# Altium integrated library NXP_60_26022015.IntLib: 1306 symbols (part 3 of 28)
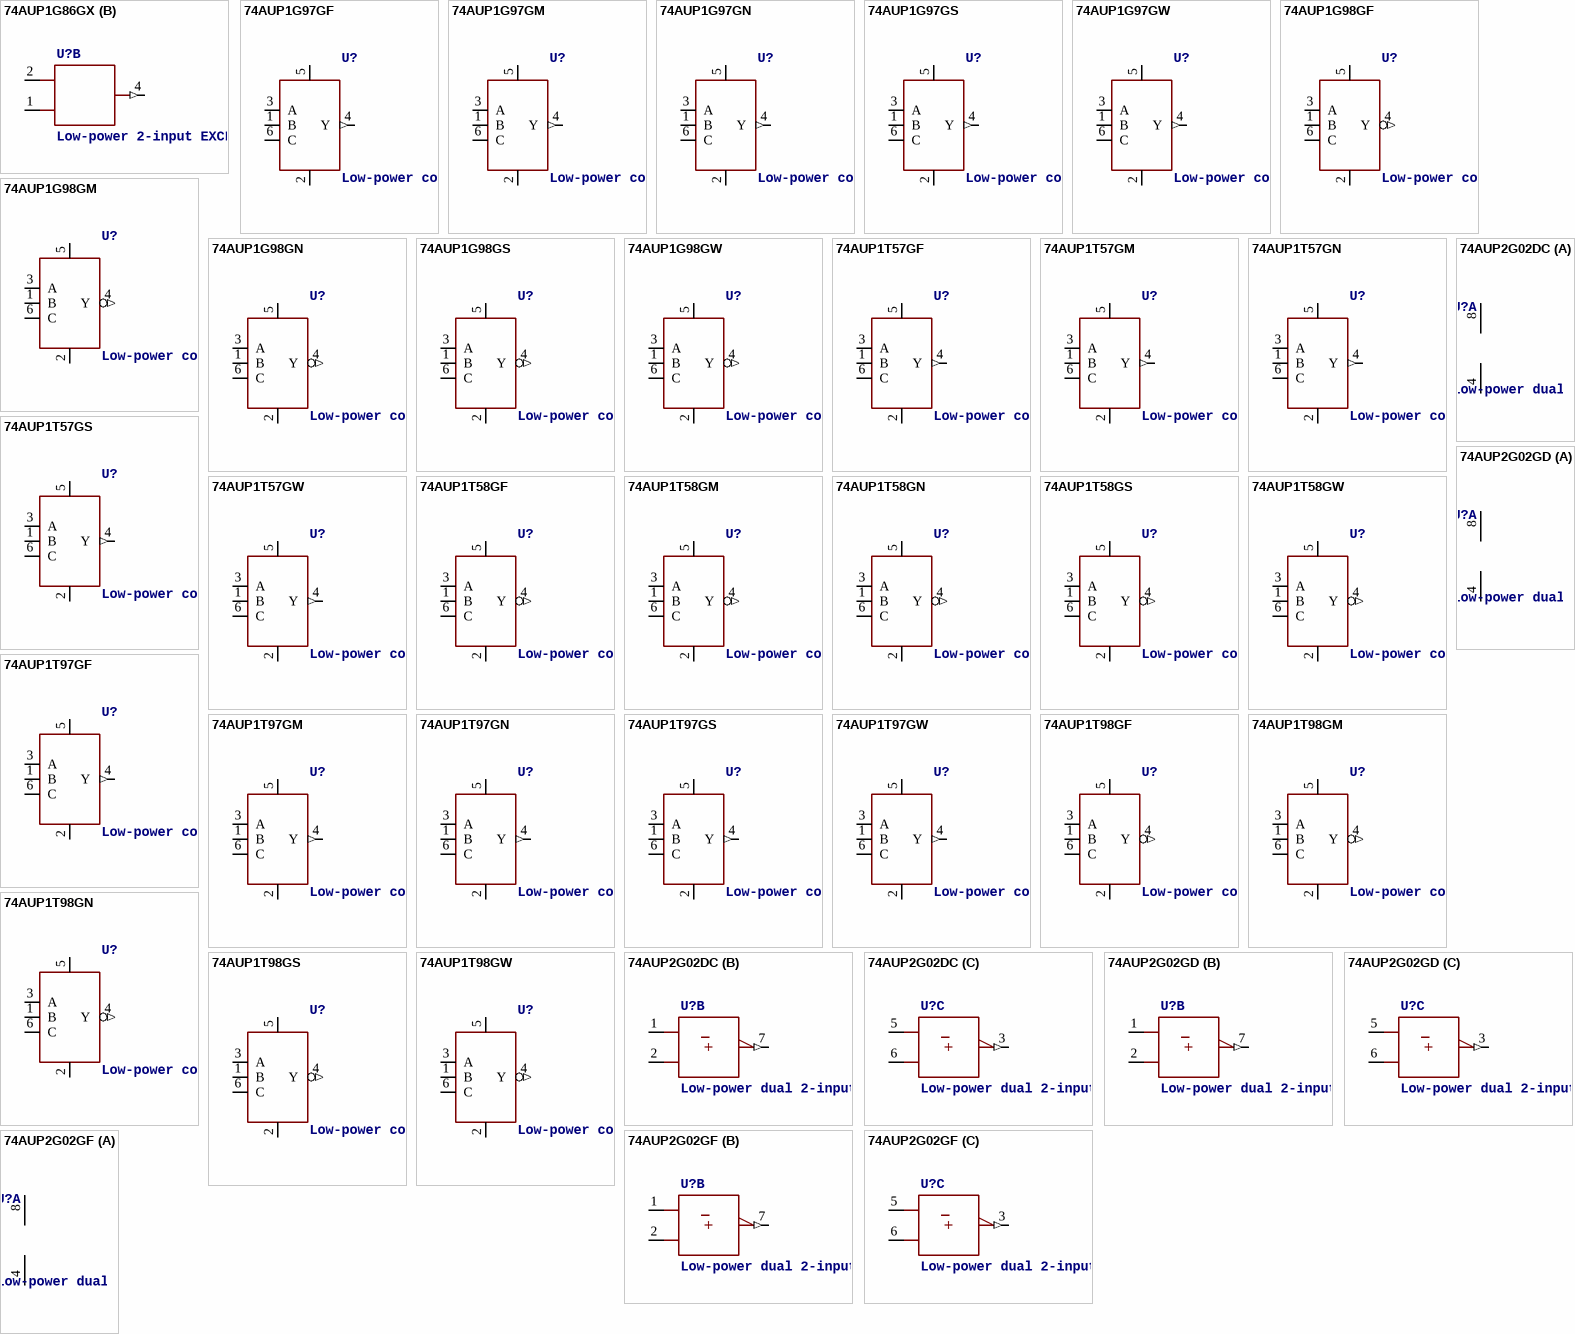
[diagram p187: symbols 74AUP1G86GX to 74AUP2G02GF]

## 74AUP1T58GM
designator U?, comment Low-power configurable multiple function gate The 74AUP1T58 provides low-power, low-voltage configurable logic gate functions. The output state is determined by eight patterns of 3-bit input. The user can choose the logic functions AND, OR, NAND, NOR, XOR, inverter and buffer. All inputs can be connected to VCC or GND. This device ensures a very low static and dynamic power consumption across the entire VCC range from 2.3 V to 3.6 V. The 74AUP1T58 is designed for logic-level translation applications with input switching levels that accept 1.8 V low-voltage CMOS signals, while operating from either a single 2.5 V or 3.3 V supply voltage. The wide supply voltage range ensures normal operation as battery voltage drops from 3.6 V to 2.3 V. This device is fully specified for partial power-down applications using IOFF. The IOFF circuitry disables the output, preventing the damaging backflow current through the device when it is powered down. Schmitt trigger inputs make the circuit tolerant to slower input rise and fall times across the entire VCC range..   AAL Eindhoven MK
12NC: 9352 804 67132
footprint SOT886
pins: 1 B, 2 GND (power), 3 A, 4 Y (out), 5 VCC (power), 6 C

## 74AUP1T58GN
designator U?, comment Low-power configurable multiple function gate The 74AUP1T58 provides low-power, low-voltage configurable logic gate functions. The output state is determined by eight patterns of 3-bit input. The user can choose the logic functions AND, OR, NAND, NOR, XOR, inverter and buffer. All inputs can be connected to VCC or GND. This device ensures a very low static and dynamic power consumption across the entire VCC range from 2.3 V to 3.6 V. The 74AUP1T58 is designed for logic-level translation applications with input switching levels that accept 1.8 V low-voltage CMOS signals, while operating from either a single 2.5 V or 3.3 V supply voltage. The wide supply voltage range ensures normal operation as battery voltage drops from 3.6 V to 2.3 V. This device is fully specified for partial power-down applications using IOFF. The IOFF circuitry disables the output, preventing the damaging backflow current through the device when it is powered down. Schmitt trigger inputs make the circuit tolerant to slower input rise and fall times across the entire VCC range..   AAL Eindhoven MK
I2C: 9352 917 55132
footprint SOT1115
pins: 1 B, 2 GND (power), 3 A, 4 Y (out), 5 VCC (power), 6 C

## 74AUP1T58GS
designator U?, comment Low-power configurable multiple function gate The 74AUP1T58 provides low-power, low-voltage configurable logic gate functions. The output state is determined by eight patterns of 3-bit input. The user can choose the logic functions AND, OR, NAND, NOR, XOR, inverter and buffer. All inputs can be connected to VCC or GND. This device ensures a very low static and dynamic power consumption across the entire VCC range from 2.3 V to 3.6 V. The 74AUP1T58 is designed for logic-level translation applications with input switching levels that accept 1.8 V low-voltage CMOS signals, while operating from either a single 2.5 V or 3.3 V supply voltage. The wide supply voltage range ensures normal operation as battery voltage drops from 3.6 V to 2.3 V. This device is fully specified for partial power-down applications using IOFF. The IOFF circuitry disables the output, preventing the damaging backflow current through the device when it is powered down. Schmitt trigger inputs make the circuit tolerant to slower input rise and fall times across the entire VCC range..   AAL Eindhoven MK
12NC: 9352 928 79132
footprint SOT1202
pins: 1 B, 2 GND (power), 3 A, 4 Y (out), 5 VCC (power), 6 C

## 74AUP1T58GW
designator U?, comment Low-power configurable multiple function gate The 74AUP1T58 provides low-power, low-voltage configurable logic gate functions. The output state is determined by eight patterns of 3-bit input. The user can choose the logic functions AND, OR, NAND, NOR, XOR, inverter and buffer. All inputs can be connected to VCC or GND. This device ensures a very low static and dynamic power consumption across the entire VCC range from 2.3 V to 3.6 V. The 74AUP1T58 is designed for logic-level translation applications with input switching levels that accept 1.8 V low-voltage CMOS signals, while operating from either a single 2.5 V or 3.3 V supply voltage. The wide supply voltage range ensures normal operation as battery voltage drops from 3.6 V to 2.3 V. This device is fully specified for partial power-down applications using IOFF. The IOFF circuitry disables the output, preventing the damaging backflow current through the device when it is powered down. Schmitt trigger inputs make the circuit tolerant to slower input rise and fall times across the entire VCC range..   AAL Eindhoven MK
12NC: 9352 804 66125
footprint SOT363
pins: 1 B, 2 GND (power), 3 A, 4 Y (out), 5 VCC (power), 6 C

## 74AUP1T97GF
designator U?, comment Low-power configurable gate with voltage-level translator The 74AUP1T97 provides low-power, low-voltage configurable logic gate functions. The output state is determined by eight patterns of 3-bit input. The user can choose the logic functions MUX, AND, OR, NAND, NOR, inverter and buffer. All inputs can be connected to VCC or GND. This device ensures a very low static and dynamic power consumption across the entire VCC range from 2.3 V to 3.6 V. The 74AUP1T97 is designed for logic-level translation applications with input switching levels that accept 1.8 V low-voltage CMOS signals, while operating from either a single 2.5 V or 3.3 V supply voltage. The wide supply voltage range ensures normal operation as battery voltage drops from 3.6 V to 2.3 V. This device is fully specified for partial power-down applications using IOFF. The IOFF circuitry disables the output, preventing the damaging backflow current through the device when it is powered down. Schmitt trigger inputs make the circuit tolerant to slower input rise and fall times across the entire VCC range.   AAL Eindhoven MK
12NC: 9352 813 66132
footprint SOT891
pins: 1 B, 2 GND (power), 3 A, 4 Y (out), 5 VCC (power), 6 C

## 74AUP1T97GM
designator U?, comment Low-power configurable gate with voltage-level translator The 74AUP1T97 provides low-power, low-voltage configurable logic gate functions. The output state is determined by eight patterns of 3-bit input. The user can choose the logic functions MUX, AND, OR, NAND, NOR, inverter and buffer. All inputs can be connected to VCC or GND. This device ensures a very low static and dynamic power consumption across the entire VCC range from 2.3 V to 3.6 V. The 74AUP1T97 is designed for logic-level translation applications with input switching levels that accept 1.8 V low-voltage CMOS signals, while operating from either a single 2.5 V or 3.3 V supply voltage. The wide supply voltage range ensures normal operation as battery voltage drops from 3.6 V to 2.3 V. This device is fully specified for partial power-down applications using IOFF. The IOFF circuitry disables the output, preventing the damaging backflow current through the device when it is powered down. Schmitt trigger inputs make the circuit tolerant to slower input rise and fall times across the entire VCC range.   AAL Eindhoven MK
12NC: 9352 804 69115
footprint SOT886
pins: 1 B, 2 GND (power), 3 A, 4 Y (out), 5 VCC (power), 6 C

## 74AUP1T97GN
designator U?, comment Low-power configurable gate with voltage-level translator The 74AUP1T97 provides low-power, low-voltage configurable logic gate functions. The output state is determined by eight patterns of 3-bit input. The user can choose the logic functions MUX, AND, OR, NAND, NOR, inverter and buffer. All inputs can be connected to VCC or GND. This device ensures a very low static and dynamic power consumption across the entire VCC range from 2.3 V to 3.6 V. The 74AUP1T97 is designed for logic-level translation applications with input switching levels that accept 1.8 V low-voltage CMOS signals, while operating from either a single 2.5 V or 3.3 V supply voltage. The wide supply voltage range ensures normal operation as battery voltage drops from 3.6 V to 2.3 V. This device is fully specified for partial power-down applications using IOFF. The IOFF circuitry disables the output, preventing the damaging backflow current through the device when it is powered down. Schmitt trigger inputs make the circuit tolerant to slower input rise and fall times across the entire VCC range.   AAL Eindhoven MK
I2C: 9352 889 86132
footprint SOT1115
pins: 1 B, 2 GND (power), 3 A, 4 Y (out), 5 VCC (power), 6 C

## 74AUP1T97GS
designator U?, comment Low-power configurable gate with voltage-level translator The 74AUP1T97 provides low-power, low-voltage configurable logic gate functions. The output state is determined by eight patterns of 3-bit input. The user can choose the logic functions MUX, AND, OR, NAND, NOR, inverter and buffer. All inputs can be connected to VCC or GND. This device ensures a very low static and dynamic power consumption across the entire VCC range from 2.3 V to 3.6 V. The 74AUP1T97 is designed for logic-level translation applications with input switching levels that accept 1.8 V low-voltage CMOS signals, while operating from either a single 2.5 V or 3.3 V supply voltage. The wide supply voltage range ensures normal operation as battery voltage drops from 3.6 V to 2.3 V. This device is fully specified for partial power-down applications using IOFF. The IOFF circuitry disables the output, preventing the damaging backflow current through the device when it is powered down. Schmitt trigger inputs make the circuit tolerant to slower input rise and fall times across the entire VCC range.   AAL Eindhoven MK
12NC: 9352 928 81132
footprint SOT1202
pins: 1 B, 2 GND (power), 3 A, 4 Y (out), 5 VCC (power), 6 C

## 74AUP1T97GW
designator U?, comment Low-power configurable gate with voltage-level translator The 74AUP1T97 provides low-power, low-voltage configurable logic gate functions. The output state is determined by eight patterns of 3-bit input. The user can choose the logic functions MUX, AND, OR, NAND, NOR, inverter and buffer. All inputs can be connected to VCC or GND. This device ensures a very low static and dynamic power consumption across the entire VCC range from 2.3 V to 3.6 V. The 74AUP1T97 is designed for logic-level translation applications with input switching levels that accept 1.8 V low-voltage CMOS signals, while operating from either a single 2.5 V or 3.3 V supply voltage. The wide supply voltage range ensures normal operation as battery voltage drops from 3.6 V to 2.3 V. This device is fully specified for partial power-down applications using IOFF. The IOFF circuitry disables the output, preventing the damaging backflow current through the device when it is powered down. Schmitt trigger inputs make the circuit tolerant to slower input rise and fall times across the entire VCC range.   AAL Eindhoven MK
12NC: 9352 804 68125
footprint SOT363
pins: 1 B, 2 GND (power), 3 A, 4 Y (out), 5 VCC (power), 6 C

## 74AUP1T98GF
designator U?, comment Low-power configurable multiple function gate The 74AUP1T98 provides low-power, low-voltage configurable logic gate functions. The output state is determined by eight patterns of 3-bit input. The user can choose the logic functions MUX, AND, OR, NAND, NOR, inverter and buffer. All inputs can be connected to VCC or GND. This device ensures a very low static and dynamic power consumption across the entire VCC range from 2.3 V to 3.6 V. The 74AUP1T98 is designed for logic-level translation applications with input switching levels that accept 1.8 V low-voltage CMOS signals, while operating from either a single 2.5 V or 3.3 V supply voltage. The wide supply voltage range ensures normal operation as battery voltage drops from 3.6 V to 2.3 V. This device is fully specified for partial power-down applications using IOFF. The IOFF circuitry disables the output, preventing the damaging backflow current through the device when it is powered down. Schmitt trigger inputs make the circuit tolerant to slower input rise and fall times across the entire VCC range.   AAL Eindhoven MK
12NC: 9352 813 67132
footprint SOT891
pins: 1 B, 2 GND (power), 3 A, 4 Y (out), 5 VCC (power), 6 C

## 74AUP1T98GM
designator U?, comment Low-power configurable multiple function gate The 74AUP1T98 provides low-power, low-voltage configurable logic gate functions. The output state is determined by eight patterns of 3-bit input. The user can choose the logic functions MUX, AND, OR, NAND, NOR, inverter and buffer. All inputs can be connected to VCC or GND. This device ensures a very low static and dynamic power consumption across the entire VCC range from 2.3 V to 3.6 V. The 74AUP1T98 is designed for logic-level translation applications with input switching levels that accept 1.8 V low-voltage CMOS signals, while operating from either a single 2.5 V or 3.3 V supply voltage. The wide supply voltage range ensures normal operation as battery voltage drops from 3.6 V to 2.3 V. This device is fully specified for partial power-down applications using IOFF. The IOFF circuitry disables the output, preventing the damaging backflow current through the device when it is powered down. Schmitt trigger inputs make the circuit tolerant to slower input rise and fall times across the entire VCC range.   AAL Eindhoven MK
12NC: 9352 804 72132
footprint SOT886
pins: 1 B, 2 GND (power), 3 A, 4 Y (out), 5 VCC (power), 6 C

## 74AUP1T98GN
designator U?, comment Low-power configurable multiple function gate The 74AUP1T98 provides low-power, low-voltage configurable logic gate functions. The output state is determined by eight patterns of 3-bit input. The user can choose the logic functions MUX, AND, OR, NAND, NOR, inverter and buffer. All inputs can be connected to VCC or GND. This device ensures a very low static and dynamic power consumption across the entire VCC range from 2.3 V to 3.6 V. The 74AUP1T98 is designed for logic-level translation applications with input switching levels that accept 1.8 V low-voltage CMOS signals, while operating from either a single 2.5 V or 3.3 V supply voltage. The wide supply voltage range ensures normal operation as battery voltage drops from 3.6 V to 2.3 V. This device is fully specified for partial power-down applications using IOFF. The IOFF circuitry disables the output, preventing the damaging backflow current through the device when it is powered down. Schmitt trigger inputs make the circuit tolerant to slower input rise and fall times across the entire VCC range.   AAL Eindhoven MK
I2C: 9352 917 56132
footprint SOT1115
pins: 1 B, 2 GND (power), 3 A, 4 Y (out), 5 VCC (power), 6 C

## 74AUP1T98GS
designator U?, comment Low-power configurable multiple function gate The 74AUP1T98 provides low-power, low-voltage configurable logic gate functions. The output state is determined by eight patterns of 3-bit input. The user can choose the logic functions MUX, AND, OR, NAND, NOR, inverter and buffer. All inputs can be connected to VCC or GND. This device ensures a very low static and dynamic power consumption across the entire VCC range from 2.3 V to 3.6 V. The 74AUP1T98 is designed for logic-level translation applications with input switching levels that accept 1.8 V low-voltage CMOS signals, while operating from either a single 2.5 V or 3.3 V supply voltage. The wide supply voltage range ensures normal operation as battery voltage drops from 3.6 V to 2.3 V. This device is fully specified for partial power-down applications using IOFF. The IOFF circuitry disables the output, preventing the damaging backflow current through the device when it is powered down. Schmitt trigger inputs make the circuit tolerant to slower input rise and fall times across the entire VCC range.   AAL Eindhoven MK
12NC: 9352 928 82132
footprint SOT1202
pins: 1 B, 2 GND (power), 3 A, 4 Y (out), 5 VCC (power), 6 C

## 74AUP1T98GW
designator U?, comment Low-power configurable multiple function gate The 74AUP1T98 provides low-power, low-voltage configurable logic gate functions. The output state is determined by eight patterns of 3-bit input. The user can choose the logic functions MUX, AND, OR, NAND, NOR, inverter and buffer. All inputs can be connected to VCC or GND. This device ensures a very low static and dynamic power consumption across the entire VCC range from 2.3 V to 3.6 V. The 74AUP1T98 is designed for logic-level translation applications with input switching levels that accept 1.8 V low-voltage CMOS signals, while operating from either a single 2.5 V or 3.3 V supply voltage. The wide supply voltage range ensures normal operation as battery voltage drops from 3.6 V to 2.3 V. This device is fully specified for partial power-down applications using IOFF. The IOFF circuitry disables the output, preventing the damaging backflow current through the device when it is powered down. Schmitt trigger inputs make the circuit tolerant to slower input rise and fall times across the entire VCC range.   AAL Eindhoven MK
12NC: 9352 804 71125
footprint SOT363
pins: 1 B, 2 GND (power), 3 A, 4 Y (out), 5 VCC (power), 6 C

## 74AUP2G02DC
designator U?, comment Low-power dual 2-input NOR gate The 74AUP2G02 provides a dual 2-input NOR function. Schmitt trigger action at all inputs makes the circuit tolerant to slower input rise and fall times across the entire VCC range from 0.8 V o 3.6 V. This device ensures a very low static and dynamic power consumption across the entire VCC range from 0.8 V to 3.6 V. This device is fully specified for partial power-down applications using IOFF. The IOFF circuitry disables the output, preventing a damaging backflow current through the device when it is powered down.    AAL Eindhoven MK
footprint SOT765
part A pins: 4 GND (power), 8 VCC (power)
part B pins: 1 A, 2 B, 7 Y (out)
part C pins: 3 Y (out), 5 A, 6 B

## 74AUP2G02GD
designator U?, comment Low-power dual 2-input NOR gate The 74AUP2G02 provides a dual 2-input NOR function. Schmitt trigger action at all inputs makes the circuit tolerant to slower input rise and fall times across the entire VCC range from 0.8 V o 3.6 V. This device ensures a very low static and dynamic power consumption across the entire VCC range from 0.8 V to 3.6 V. This device is fully specified for partial power-down applications using IOFF. The IOFF circuitry disables the output, preventing a damaging backflow current through the device when it is powered down.    AAL Eindhoven MK
footprint SOT996-2/3
part A pins: 4 GND (power), 8 VCC (power)
part B pins: 1 A, 2 B, 7 Y (out)
part C pins: 3 Y (out), 5 A, 6 B

## 74AUP2G02GF
designator U?, comment Low-power dual 2-input NOR gate The 74AUP2G02 provides a dual 2-input NOR function. Schmitt trigger action at all inputs makes the circuit tolerant to slower input rise and fall times across the entire VCC range from 0.8 V o 3.6 V. This device ensures a very low static and dynamic power consumption across the entire VCC range from 0.8 V to 3.6 V. This device is fully specified for partial power-down applications using IOFF. The IOFF circuitry disables the output, preventing a damaging backflow current through the device when it is powered down.    AAL Eindhoven MK
footprint SOT1089-1
part A pins: 4 GND (power), 8 VCC (power)
part B pins: 1 A, 2 B, 7 Y (out)
part C pins: 3 Y (out), 5 A, 6 B

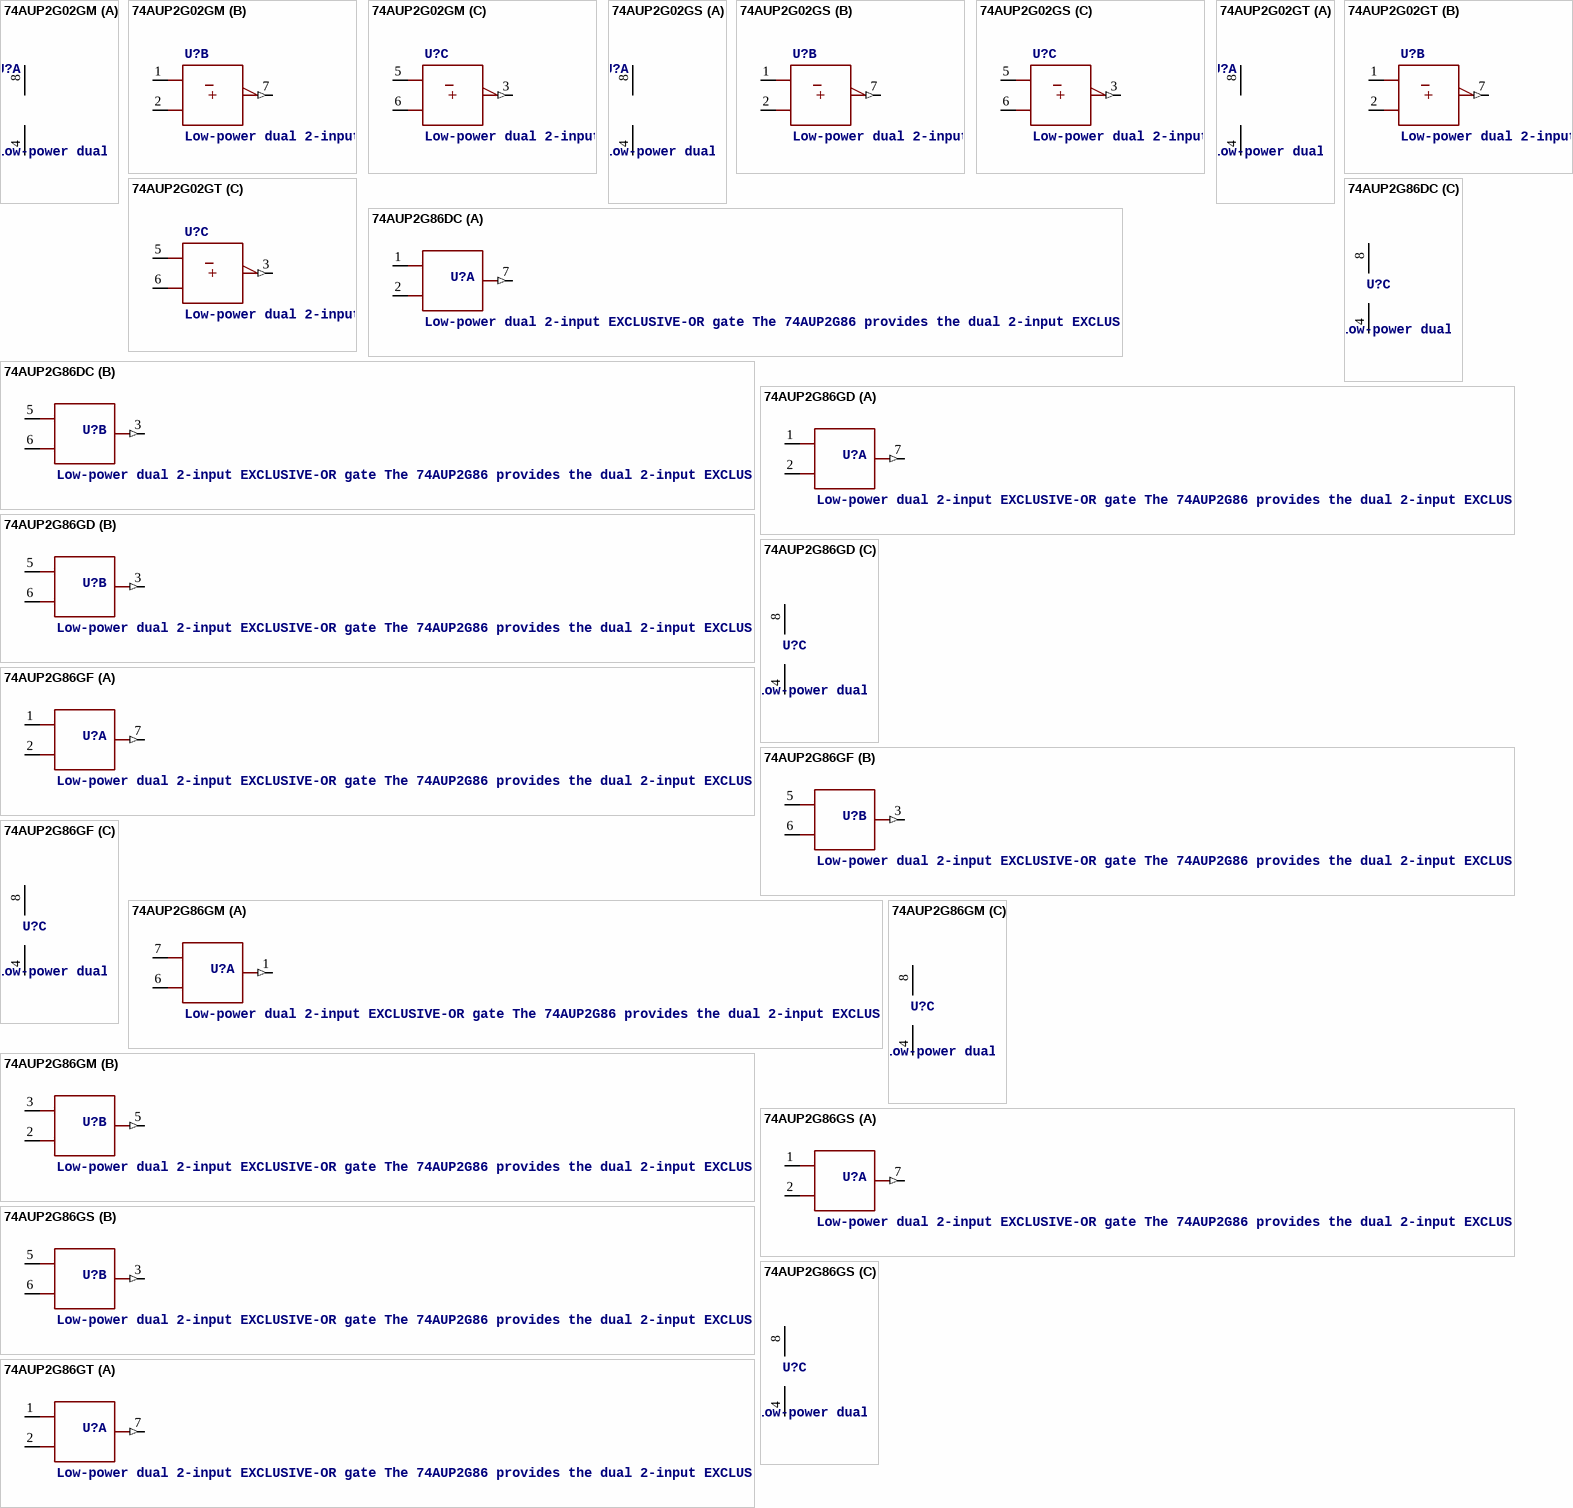
[diagram p9: symbols 74AUP2G02GM to 74AUP2G86GT]

## 74AUP2G02GM
designator U?, comment Low-power dual 2-input NOR gate The 74AUP2G02 provides a dual 2-input NOR function. Schmitt trigger action at all inputs makes the circuit tolerant to slower input rise and fall times across the entire VCC range from 0.8 V o 3.6 V. This device ensures a very low static and dynamic power consumption across the entire VCC range from 0.8 V to 3.6 V. This device is fully specified for partial power-down applications using IOFF. The IOFF circuitry disables the output, preventing a damaging backflow current through the device when it is powered down.    AAL Eindhoven MK
footprint SOT902-1/2/3
part A pins: 4 GND (power), 8 VCC (power)
part B pins: 1 A, 2 B, 7 Y (out)
part C pins: 3 Y (out), 5 A, 6 B

## 74AUP2G02GS
designator U?, comment Low-power dual 2-input NOR gate The 74AUP2G02 provides a dual 2-input NOR function. Schmitt trigger action at all inputs makes the circuit tolerant to slower input rise and fall times across the entire VCC range from 0.8 V o 3.6 V. This device ensures a very low static and dynamic power consumption across the entire VCC range from 0.8 V to 3.6 V. This device is fully specified for partial power-down applications using IOFF. The IOFF circuitry disables the output, preventing a damaging backflow current through the device when it is powered down.    AAL Eindhoven MK
footprint SOT1203
part A pins: 4 GND (power), 8 VCC (power)
part B pins: 1 A, 2 B, 7 Y (out)
part C pins: 3 Y (out), 5 A, 6 B

## 74AUP2G02GT
designator U?, comment Low-power dual 2-input NOR gate The 74AUP2G02 provides a dual 2-input NOR function. Schmitt trigger action at all inputs makes the circuit tolerant to slower input rise and fall times across the entire VCC range from 0.8 V o 3.6 V. This device ensures a very low static and dynamic power consumption across the entire VCC range from 0.8 V to 3.6 V. This device is fully specified for partial power-down applications using IOFF. The IOFF circuitry disables the output, preventing a damaging backflow current through the device when it is powered down.    AAL Eindhoven MK
footprint SOT833-1
part A pins: 4 GND (power), 8 VCC (power)
part B pins: 1 A, 2 B, 7 Y (out)
part C pins: 3 Y (out), 5 A, 6 B

## 74AUP2G86DC
designator U?, comment Low-power dual 2-input EXCLUSIVE-OR gate The 74AUP2G86 provides the dual 2-input EXCLUSIVE-OR function. Schmitt trigger action at all inputs makes the circuit tolerant to slower input rise and fall times across the entire VCC range from 0.8 V to 3.6 V. This device ensures a very low static and dynamic power consumption across the entire VCC range from 0.8 V to 3.6 V. This device is fully specified for partial power-down applications using IOFF. The IOFF circuitry disables the output, preventing a damaging backflow current through the device when it is powered down.    AAL Eindhoven MK
footprint SOT765
part A pins: 1 A, 2 B, 7 Y (out)
part B pins: 3 Y (out), 5 A, 6 B
part C pins: 4 GND (power), 8 VCC (power)

## 74AUP2G86GD
designator U?, comment Low-power dual 2-input EXCLUSIVE-OR gate The 74AUP2G86 provides the dual 2-input EXCLUSIVE-OR function. Schmitt trigger action at all inputs makes the circuit tolerant to slower input rise and fall times across the entire VCC range from 0.8 V to 3.6 V. This device ensures a very low static and dynamic power consumption across the entire VCC range from 0.8 V to 3.6 V. This device is fully specified for partial power-down applications using IOFF. The IOFF circuitry disables the output, preventing a damaging backflow current through the device when it is powered down.    AAL Eindhoven MK
footprint SOT996-2/3
part A pins: 1 A, 2 B, 7 Y (out)
part B pins: 3 Y (out), 5 A, 6 B
part C pins: 4 GND (power), 8 VCC (power)

## 74AUP2G86GF
designator U?, comment Low-power dual 2-input EXCLUSIVE-OR gate The 74AUP2G86 provides the dual 2-input EXCLUSIVE-OR function. Schmitt trigger action at all inputs makes the circuit tolerant to slower input rise and fall times across the entire VCC range from 0.8 V to 3.6 V. This device ensures a very low static and dynamic power consumption across the entire VCC range from 0.8 V to 3.6 V. This device is fully specified for partial power-down applications using IOFF. The IOFF circuitry disables the output, preventing a damaging backflow current through the device when it is powered down.    AAL Eindhoven MK
footprint SOT1089-1
part A pins: 1 A, 2 B, 7 Y (out)
part B pins: 3 Y (out), 5 A, 6 B
part C pins: 4 GND (power), 8 VCC (power)

## 74AUP2G86GM
designator U?, comment Low-power dual 2-input EXCLUSIVE-OR gate The 74AUP2G86 provides the dual 2-input EXCLUSIVE-OR function. Schmitt trigger action at all inputs makes the circuit tolerant to slower input rise and fall times across the entire VCC range from 0.8 V to 3.6 V. This device ensures a very low static and dynamic power consumption across the entire VCC range from 0.8 V to 3.6 V. This device is fully specified for partial power-down applications using IOFF. The IOFF circuitry disables the output, preventing a damaging backflow current through the device when it is powered down.    AAL Eindhoven MK
footprint SOT902-1/2/3
part A pins: 1 Y (out), 6 B, 7 A
part B pins: 2 B, 3 A, 5 Y (out)
part C pins: 4 GND (power), 8 VCC (power)

## 74AUP2G86GS
designator U?, comment Low-power dual 2-input EXCLUSIVE-OR gate The 74AUP2G86 provides the dual 2-input EXCLUSIVE-OR function. Schmitt trigger action at all inputs makes the circuit tolerant to slower input rise and fall times across the entire VCC range from 0.8 V to 3.6 V. This device ensures a very low static and dynamic power consumption across the entire VCC range from 0.8 V to 3.6 V. This device is fully specified for partial power-down applications using IOFF. The IOFF circuitry disables the output, preventing a damaging backflow current through the device when it is powered down.    AAL Eindhoven MK
footprint SOT1203
part A pins: 1 A, 2 B, 7 Y (out)
part B pins: 3 Y (out), 5 A, 6 B
part C pins: 4 GND (power), 8 VCC (power)

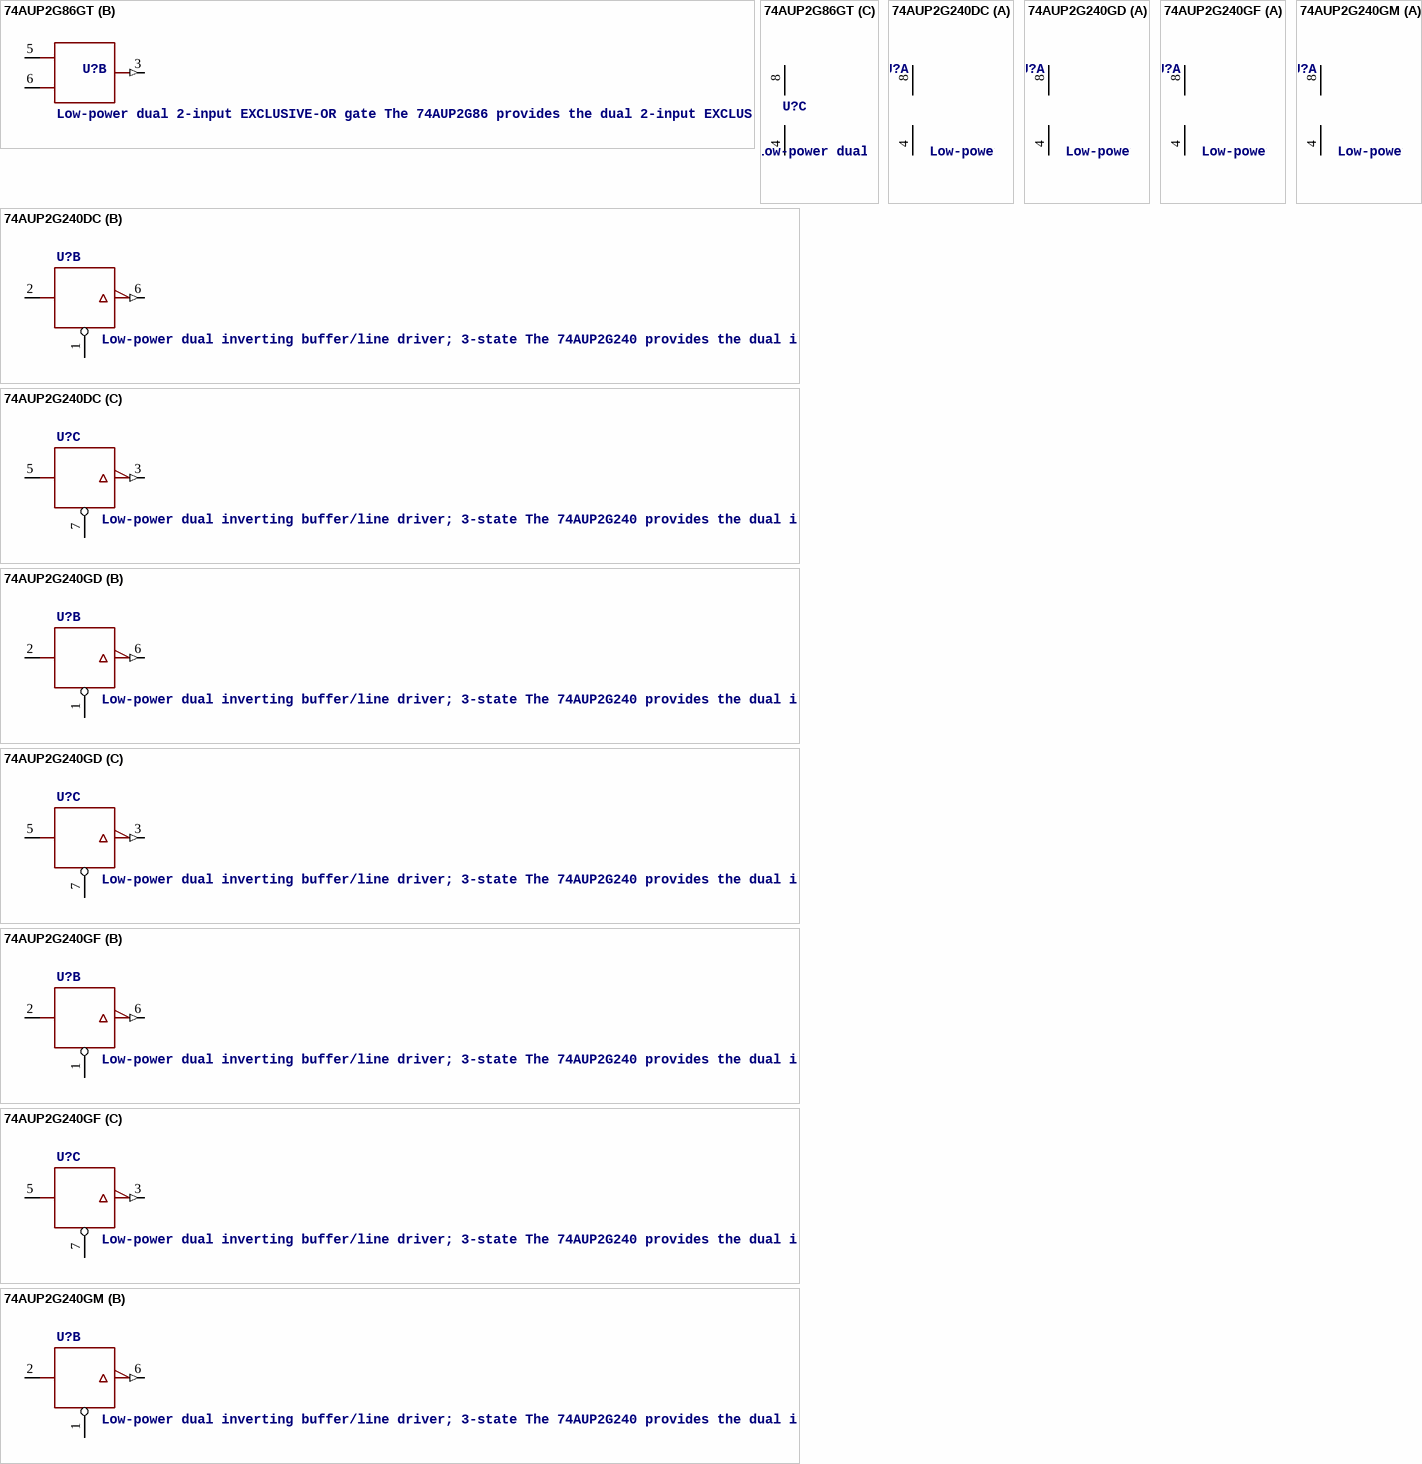
[diagram p10: symbols 74AUP2G86GT to 74AUP2G240GM]

## 74AUP2G86GT
designator U?, comment Low-power dual 2-input EXCLUSIVE-OR gate The 74AUP2G86 provides the dual 2-input EXCLUSIVE-OR function. Schmitt trigger action at all inputs makes the circuit tolerant to slower input rise and fall times across the entire VCC range from 0.8 V to 3.6 V. This device ensures a very low static and dynamic power consumption across the entire VCC range from 0.8 V to 3.6 V. This device is fully specified for partial power-down applications using IOFF. The IOFF circuitry disables the output, preventing a damaging backflow current through the device when it is powered down.    AAL Eindhoven MK
footprint SOT833-1
part A pins: 1 A, 2 B, 7 Y (out)
part B pins: 3 Y (out), 5 A, 6 B
part C pins: 4 GND (power), 8 VCC (power)

## 74AUP2G240DC
designator U?, comment Low-power dual inverting buffer/line driver; 3-state The 74AUP2G240 provides the dual inverting buffer/line driver with 3-state output. The 3-state output is controlled by the output enable input (nOE). A HIGH level at pin nOE causes the output to assume a high-impedance OFF-state. Schmitt-trigger action at all inputs makes the circuit tolerant to slower input rise and fall times across the entire VCC range from 0.8 V to 3.6 V. This device ensures a very low static and dynamic power consumption across the entire VCC range from 0.8 V to 3.6 V. This device is fully specified for partial Power-down applications using IOFF. The IOFF circuitry disables the output, preventing the damaging backflow current through the device when it is powered down. This device has the input-disable feature, which allows floating input signals. The inputs are disabled when the output enable input nOE is HIGH..    AAL Eindhoven MK
footprint SOT765
part A pins: 4 GND (power), 8 VCC (power)
part B pins: 1 !OE, 2 A, 6 Y (out)
part C pins: 3 Y (out), 5 A, 7 !OE

## 74AUP2G240GD
designator U?, comment Low-power dual inverting buffer/line driver; 3-state The 74AUP2G240 provides the dual inverting buffer/line driver with 3-state output. The 3-state output is controlled by the output enable input (nOE). A HIGH level at pin nOE causes the output to assume a high-impedance OFF-state. Schmitt-trigger action at all inputs makes the circuit tolerant to slower input rise and fall times across the entire VCC range from 0.8 V to 3.6 V. This device ensures a very low static and dynamic power consumption across the entire VCC range from 0.8 V to 3.6 V. This device is fully specified for partial Power-down applications using IOFF. The IOFF circuitry disables the output, preventing the damaging backflow current through the device when it is powered down. This device has the input-disable feature, which allows floating input signals. The inputs are disabled when the output enable input nOE is HIGH..    AAL Eindhoven MK
footprint SOT996-2/3
part A pins: 4 GND (power), 8 VCC (power)
part B pins: 1 !OE, 2 A, 6 Y (out)
part C pins: 3 Y (out), 5 A, 7 !OE

## 74AUP2G240GF
designator U?, comment Low-power dual inverting buffer/line driver; 3-state The 74AUP2G240 provides the dual inverting buffer/line driver with 3-state output. The 3-state output is controlled by the output enable input (nOE). A HIGH level at pin nOE causes the output to assume a high-impedance OFF-state. Schmitt-trigger action at all inputs makes the circuit tolerant to slower input rise and fall times across the entire VCC range from 0.8 V to 3.6 V. This device ensures a very low static and dynamic power consumption across the entire VCC range from 0.8 V to 3.6 V. This device is fully specified for partial Power-down applications using IOFF. The IOFF circuitry disables the output, preventing the damaging backflow current through the device when it is powered down. This device has the input-disable feature, which allows floating input signals. The inputs are disabled when the output enable input nOE is HIGH..    AAL Eindhoven MK
footprint SOT1089-1
part A pins: 4 GND (power), 8 VCC (power)
part B pins: 1 !OE, 2 A, 6 Y (out)
part C pins: 3 Y (out), 5 A, 7 !OE

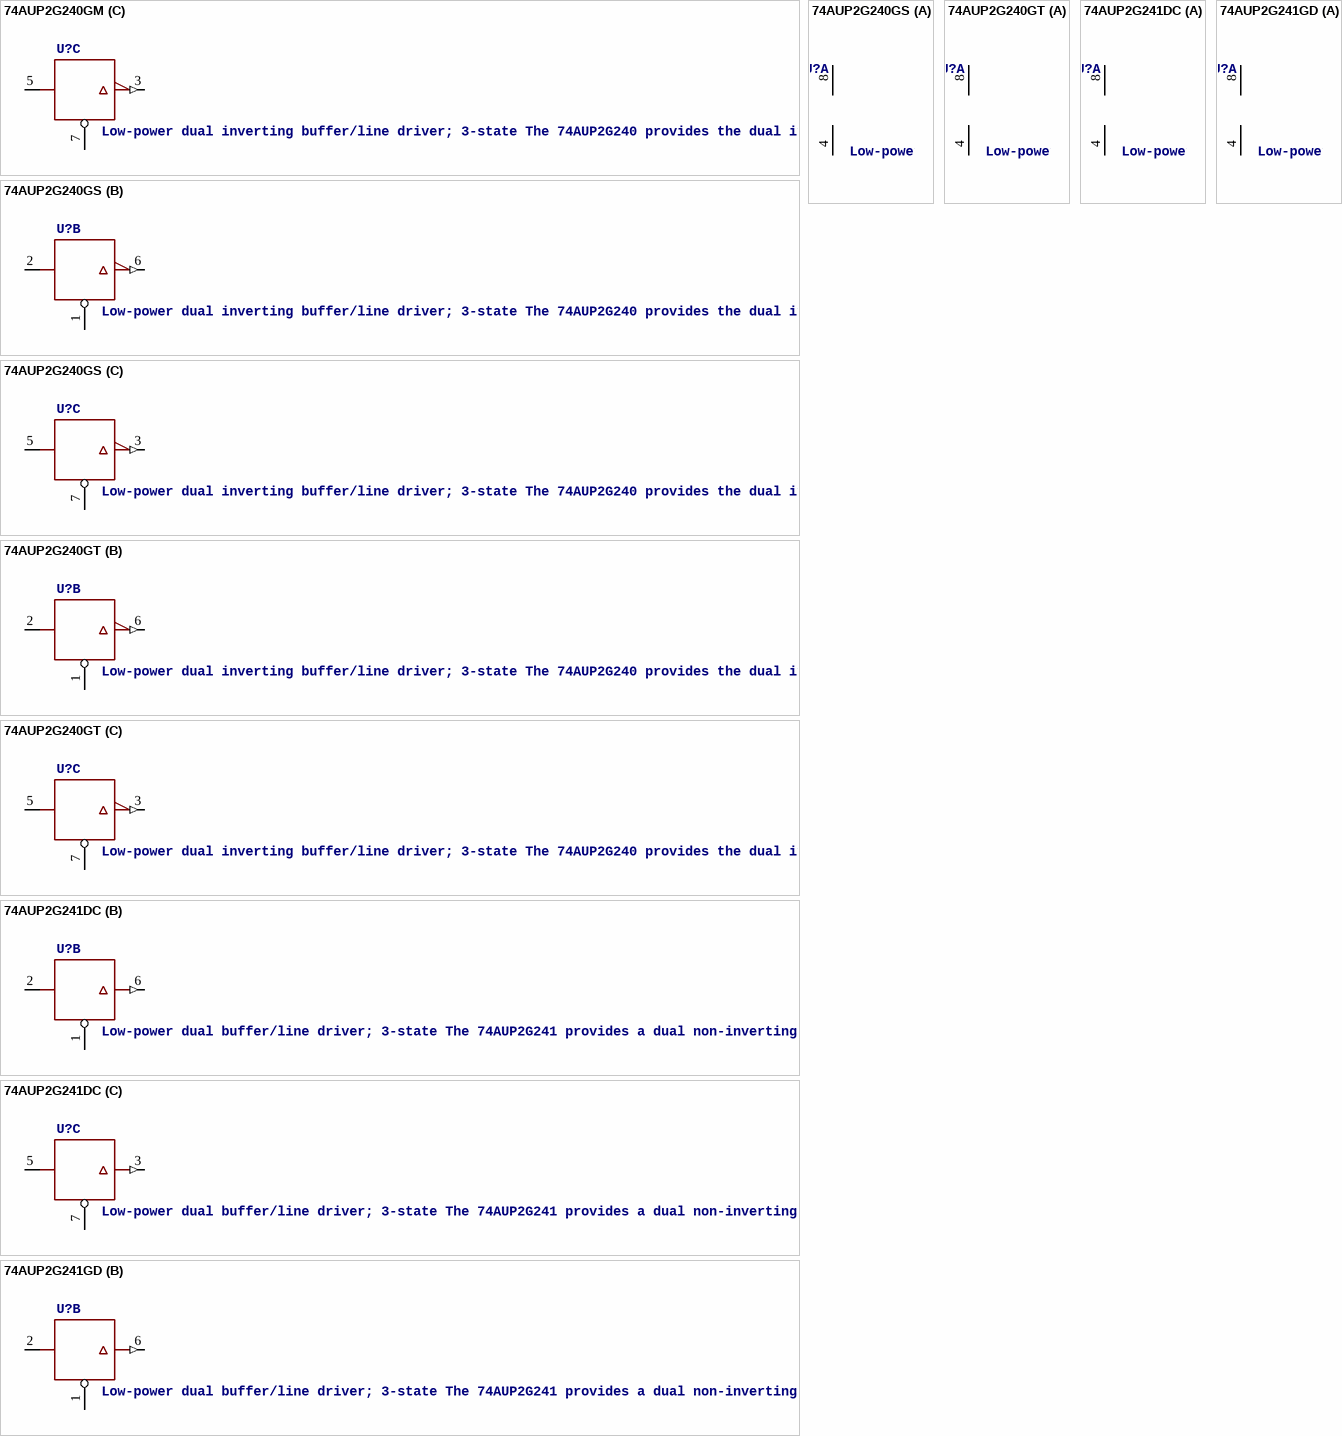
[diagram p11: symbols 74AUP2G240GM to 74AUP2G241GD]

## 74AUP2G240GM
designator U?, comment Low-power dual inverting buffer/line driver; 3-state The 74AUP2G240 provides the dual inverting buffer/line driver with 3-state output. The 3-state output is controlled by the output enable input (nOE). A HIGH level at pin nOE causes the output to assume a high-impedance OFF-state. Schmitt-trigger action at all inputs makes the circuit tolerant to slower input rise and fall times across the entire VCC range from 0.8 V to 3.6 V. This device ensures a very low static and dynamic power consumption across the entire VCC range from 0.8 V to 3.6 V. This device is fully specified for partial Power-down applications using IOFF. The IOFF circuitry disables the output, preventing the damaging backflow current through the device when it is powered down. This device has the input-disable feature, which allows floating input signals. The inputs are disabled when the output enable input nOE is HIGH..    AAL Eindhoven MK
footprint SOT902-1/2/3
part A pins: 4 GND (power), 8 VCC (power)
part B pins: 1 !OE, 2 A, 6 Y (out)
part C pins: 3 Y (out), 5 A, 7 !OE

## 74AUP2G240GS
designator U?, comment Low-power dual inverting buffer/line driver; 3-state The 74AUP2G240 provides the dual inverting buffer/line driver with 3-state output. The 3-state output is controlled by the output enable input (nOE). A HIGH level at pin nOE causes the output to assume a high-impedance OFF-state. Schmitt-trigger action at all inputs makes the circuit tolerant to slower input rise and fall times across the entire VCC range from 0.8 V to 3.6 V. This device ensures a very low static and dynamic power consumption across the entire VCC range from 0.8 V to 3.6 V. This device is fully specified for partial Power-down applications using IOFF. The IOFF circuitry disables the output, preventing the damaging backflow current through the device when it is powered down. This device has the input-disable feature, which allows floating input signals. The inputs are disabled when the output enable input nOE is HIGH..    AAL Eindhoven MK
footprint SOT1203
part A pins: 4 GND (power), 8 VCC (power)
part B pins: 1 !OE, 2 A, 6 Y (out)
part C pins: 3 Y (out), 5 A, 7 !OE

## 74AUP2G240GT
designator U?, comment Low-power dual inverting buffer/line driver; 3-state The 74AUP2G240 provides the dual inverting buffer/line driver with 3-state output. The 3-state output is controlled by the output enable input (nOE). A HIGH level at pin nOE causes the output to assume a high-impedance OFF-state. Schmitt-trigger action at all inputs makes the circuit tolerant to slower input rise and fall times across the entire VCC range from 0.8 V to 3.6 V. This device ensures a very low static and dynamic power consumption across the entire VCC range from 0.8 V to 3.6 V. This device is fully specified for partial Power-down applications using IOFF. The IOFF circuitry disables the output, preventing the damaging backflow current through the device when it is powered down. This device has the input-disable feature, which allows floating input signals. The inputs are disabled when the output enable input nOE is HIGH..    AAL Eindhoven MK
footprint SOT833-1
part A pins: 4 GND (power), 8 VCC (power)
part B pins: 1 !OE, 2 A, 6 Y (out)
part C pins: 3 Y (out), 5 A, 7 !OE

## 74AUP2G241DC
designator U?, comment Low-power dual buffer/line driver; 3-state The 74AUP2G241 provides a dual non-inverting buffer/line driver with 3-state outputs. The 3-state outputs are controlled by the output enable inputs 1OE and 2OE. A HIGH level at pin 1OE causes output 1Y to assume a high-impedance OFF-state. A LOW level at pin 2OE causes output 2Y to assume a high-impedance OFF-state. Schmitt trigger action at all inputs makes the circuit tolerant to slower input rise and fall times across the entire VCC range from 0.8 V to 3.6 V. This device ensures a very low static and dynamic power consumption across the entire VCC range from 0.8 V to 3.6 V. This device is fully specified for partial power-down applications using IOFF. The IOFF circuitry disables the output, preventing the damaging backflow current through the device when it is powered down. This device has an input-disable feature, which allows floating input signals. The input 1A is disabled when the output enable input 1OE is HIGH. The input 2A is disabled when the output enable input 2OE is LOW.    AAL Eindhoven MK
footprint SOT765
part A pins: 4 GND (power), 8 VCC (power)
part B pins: 1 !OE, 2 A, 6 Y (out)
part C pins: 3 Y (out), 5 A, 7 !OE

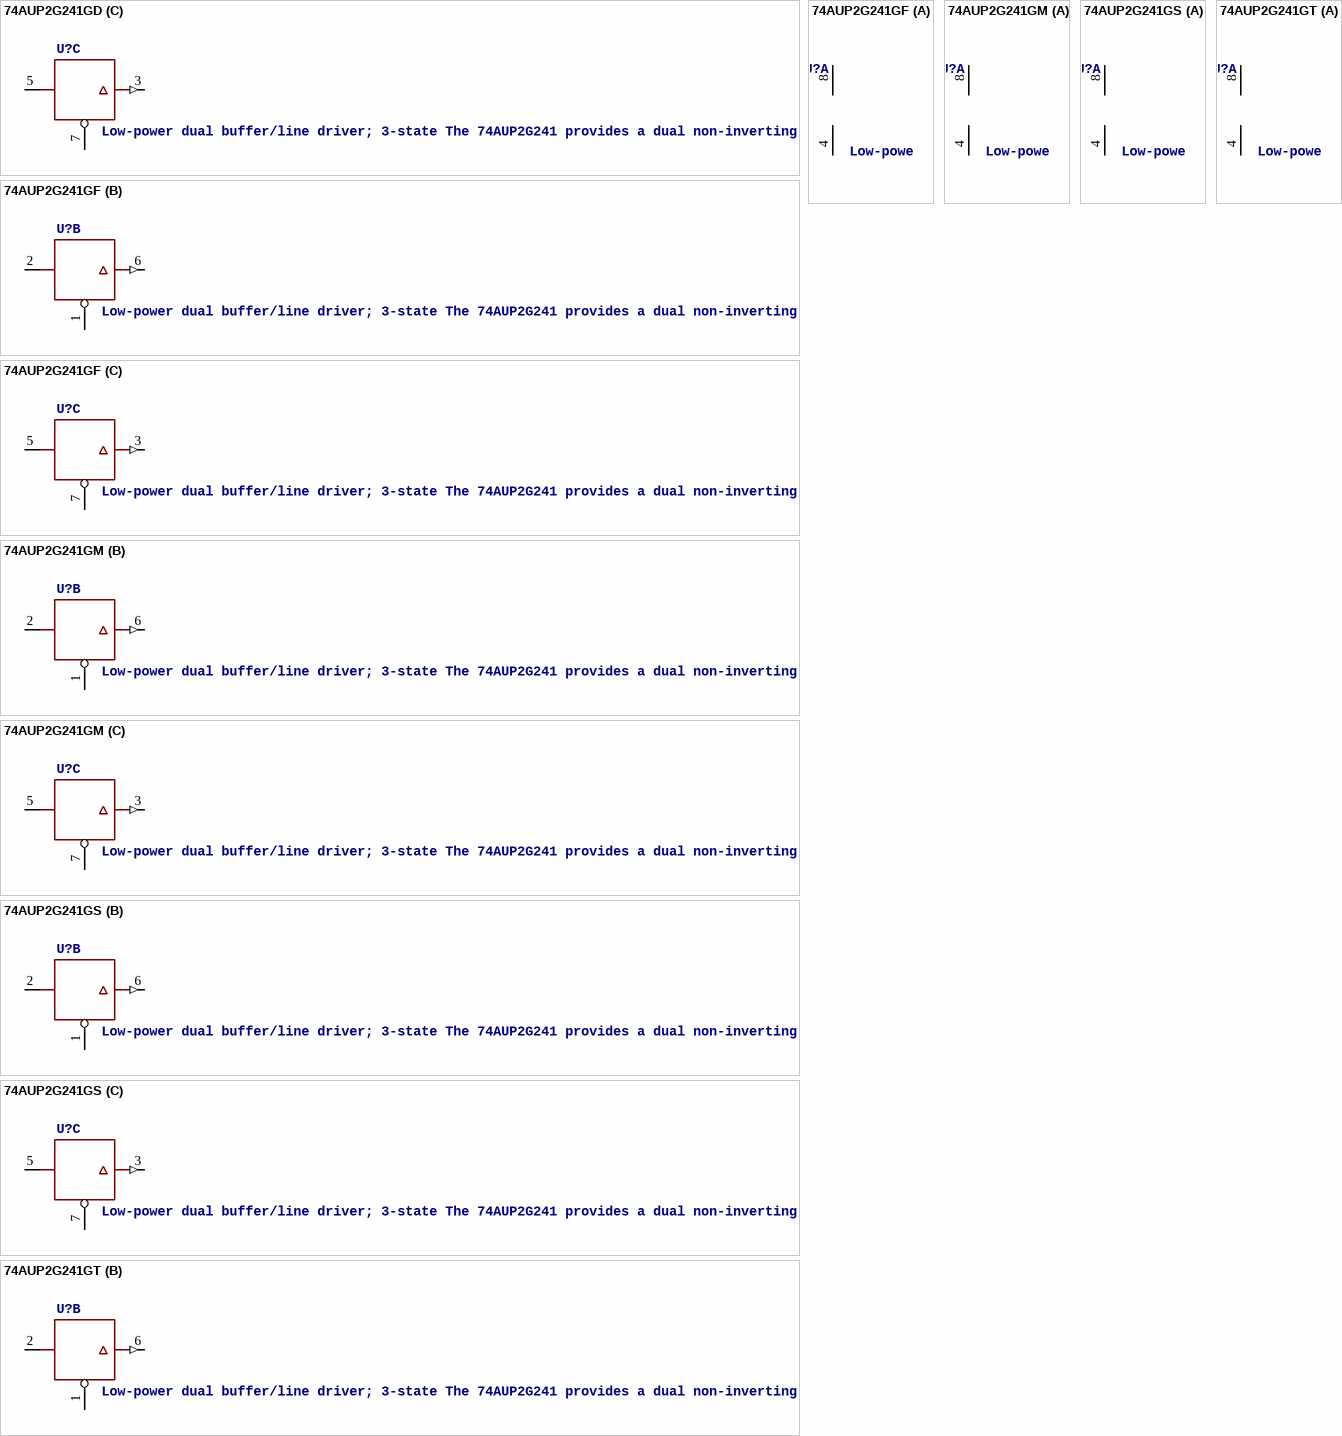
[diagram p12: symbols 74AUP2G241GD to 74AUP2G241GT]

## 74AUP2G241GD
designator U?, comment Low-power dual buffer/line driver; 3-state The 74AUP2G241 provides a dual non-inverting buffer/line driver with 3-state outputs. The 3-state outputs are controlled by the output enable inputs 1OE and 2OE. A HIGH level at pin 1OE causes output 1Y to assume a high-impedance OFF-state. A LOW level at pin 2OE causes output 2Y to assume a high-impedance OFF-state. Schmitt trigger action at all inputs makes the circuit tolerant to slower input rise and fall times across the entire VCC range from 0.8 V to 3.6 V. This device ensures a very low static and dynamic power consumption across the entire VCC range from 0.8 V to 3.6 V. This device is fully specified for partial power-down applications using IOFF. The IOFF circuitry disables the output, preventing the damaging backflow current through the device when it is powered down. This device has an input-disable feature, which allows floating input signals. The input 1A is disabled when the output enable input 1OE is HIGH. The input 2A is disabled when the output enable input 2OE is LOW.    AAL Eindhoven MK
footprint SOT996-2/3
part A pins: 4 GND (power), 8 VCC (power)
part B pins: 1 !OE, 2 A, 6 Y (out)
part C pins: 3 Y (out), 5 A, 7 !OE

## 74AUP2G241GF
designator U?, comment Low-power dual buffer/line driver; 3-state The 74AUP2G241 provides a dual non-inverting buffer/line driver with 3-state outputs. The 3-state outputs are controlled by the output enable inputs 1OE and 2OE. A HIGH level at pin 1OE causes output 1Y to assume a high-impedance OFF-state. A LOW level at pin 2OE causes output 2Y to assume a high-impedance OFF-state. Schmitt trigger action at all inputs makes the circuit tolerant to slower input rise and fall times across the entire VCC range from 0.8 V to 3.6 V. This device ensures a very low static and dynamic power consumption across the entire VCC range from 0.8 V to 3.6 V. This device is fully specified for partial power-down applications using IOFF. The IOFF circuitry disables the output, preventing the damaging backflow current through the device when it is powered down. This device has an input-disable feature, which allows floating input signals. The input 1A is disabled when the output enable input 1OE is HIGH. The input 2A is disabled when the output enable input 2OE is LOW.    AAL Eindhoven MK
footprint SOT1089-1
part A pins: 4 GND (power), 8 VCC (power)
part B pins: 1 !OE, 2 A, 6 Y (out)
part C pins: 3 Y (out), 5 A, 7 !OE

## 74AUP2G241GM
designator U?, comment Low-power dual buffer/line driver; 3-state The 74AUP2G241 provides a dual non-inverting buffer/line driver with 3-state outputs. The 3-state outputs are controlled by the output enable inputs 1OE and 2OE. A HIGH level at pin 1OE causes output 1Y to assume a high-impedance OFF-state. A LOW level at pin 2OE causes output 2Y to assume a high-impedance OFF-state. Schmitt trigger action at all inputs makes the circuit tolerant to slower input rise and fall times across the entire VCC range from 0.8 V to 3.6 V. This device ensures a very low static and dynamic power consumption across the entire VCC range from 0.8 V to 3.6 V. This device is fully specified for partial power-down applications using IOFF. The IOFF circuitry disables the output, preventing the damaging backflow current through the device when it is powered down. This device has an input-disable feature, which allows floating input signals. The input 1A is disabled when the output enable input 1OE is HIGH. The input 2A is disabled when the output enable input 2OE is LOW.    AAL Eindhoven MK
footprint SOT902-1/2/3
part A pins: 4 GND (power), 8 VCC (power)
part B pins: 1 !OE, 2 A, 6 Y (out)
part C pins: 3 Y (out), 5 A, 7 !OE

## 74AUP2G241GS
designator U?, comment Low-power dual buffer/line driver; 3-state The 74AUP2G241 provides a dual non-inverting buffer/line driver with 3-state outputs. The 3-state outputs are controlled by the output enable inputs 1OE and 2OE. A HIGH level at pin 1OE causes output 1Y to assume a high-impedance OFF-state. A LOW level at pin 2OE causes output 2Y to assume a high-impedance OFF-state. Schmitt trigger action at all inputs makes the circuit tolerant to slower input rise and fall times across the entire VCC range from 0.8 V to 3.6 V. This device ensures a very low static and dynamic power consumption across the entire VCC range from 0.8 V to 3.6 V. This device is fully specified for partial power-down applications using IOFF. The IOFF circuitry disables the output, preventing the damaging backflow current through the device when it is powered down. This device has an input-disable feature, which allows floating input signals. The input 1A is disabled when the output enable input 1OE is HIGH. The input 2A is disabled when the output enable input 2OE is LOW.    AAL Eindhoven MK
footprint SOT1203
part A pins: 4 GND (power), 8 VCC (power)
part B pins: 1 !OE, 2 A, 6 Y (out)
part C pins: 3 Y (out), 5 A, 7 !OE

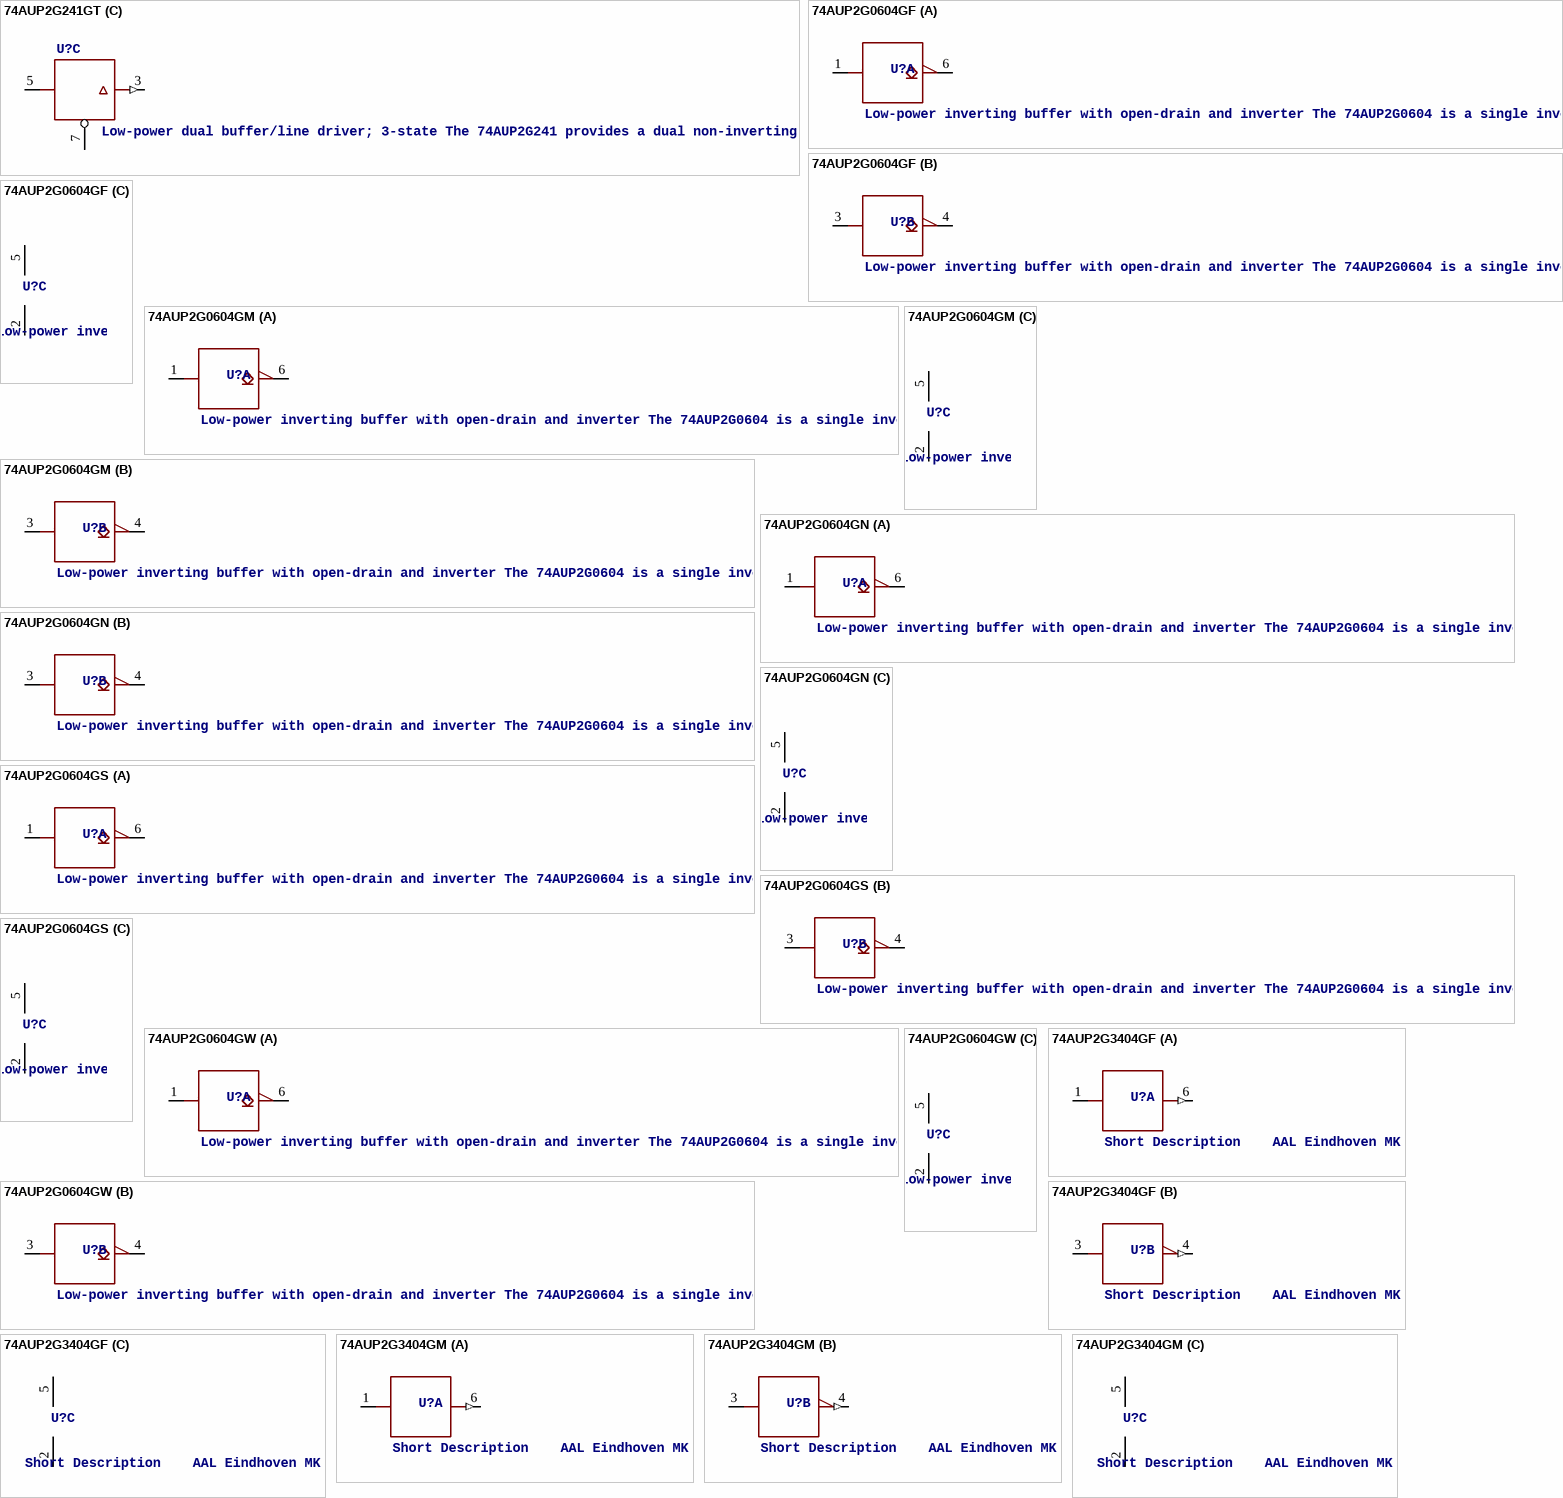
[diagram p13: symbols 74AUP2G241GT to 74AUP2G3404GM]

## 74AUP2G241GT
designator U?, comment Low-power dual buffer/line driver; 3-state The 74AUP2G241 provides a dual non-inverting buffer/line driver with 3-state outputs. The 3-state outputs are controlled by the output enable inputs 1OE and 2OE. A HIGH level at pin 1OE causes output 1Y to assume a high-impedance OFF-state. A LOW level at pin 2OE causes output 2Y to assume a high-impedance OFF-state. Schmitt trigger action at all inputs makes the circuit tolerant to slower input rise and fall times across the entire VCC range from 0.8 V to 3.6 V. This device ensures a very low static and dynamic power consumption across the entire VCC range from 0.8 V to 3.6 V. This device is fully specified for partial power-down applications using IOFF. The IOFF circuitry disables the output, preventing the damaging backflow current through the device when it is powered down. This device has an input-disable feature, which allows floating input signals. The input 1A is disabled when the output enable input 1OE is HIGH. The input 2A is disabled when the output enable input 2OE is LOW.    AAL Eindhoven MK
footprint SOT833-1
part A pins: 4 GND (power), 8 VCC (power)
part B pins: 1 !OE, 2 A, 6 Y (out)
part C pins: 3 Y (out), 5 A, 7 !OE

## 74AUP2G0604GF
designator U?, comment Low-power inverting buffer with open-drain and inverter The 74AUP2G0604 is a single inverting buffer with open-drain output and a single inverter. It features two input pins (nA), an output pin (2Y) and an open-drain output pin (1Y). Schmitt trigger action at all inputs makes the circuit tolerant of slower input rise and fall times across the entire VCC range from 0.8 V to 3.6 V. This device ensures a very low static and dynamic power consumption across the entire VCC range from 0.8 V to 3.6 V. This device is fully specified for partial power-down applications using IOFF. The IOFF circuitry disables the output, preventing the damaging backflow current through the device when it is powered down.    AAL Eindhoven MK
footprint SOT891
part A pins: 1 A, 6 Y (oc)
part B pins: 3 A, 4 Y (oc)
part C pins: 2 GND (power), 5 VCC (power)

## 74AUP2G0604GM
designator U?, comment Low-power inverting buffer with open-drain and inverter The 74AUP2G0604 is a single inverting buffer with open-drain output and a single inverter. It features two input pins (nA), an output pin (2Y) and an open-drain output pin (1Y). Schmitt trigger action at all inputs makes the circuit tolerant of slower input rise and fall times across the entire VCC range from 0.8 V to 3.6 V. This device ensures a very low static and dynamic power consumption across the entire VCC range from 0.8 V to 3.6 V. This device is fully specified for partial power-down applications using IOFF. The IOFF circuitry disables the output, preventing the damaging backflow current through the device when it is powered down.    AAL Eindhoven MK
footprint SOT886
part A pins: 1 A, 6 Y (oc)
part B pins: 3 A, 4 Y (oc)
part C pins: 2 GND (power), 5 VCC (power)

## 74AUP2G0604GN
designator U?, comment Low-power inverting buffer with open-drain and inverter The 74AUP2G0604 is a single inverting buffer with open-drain output and a single inverter. It features two input pins (nA), an output pin (2Y) and an open-drain output pin (1Y). Schmitt trigger action at all inputs makes the circuit tolerant of slower input rise and fall times across the entire VCC range from 0.8 V to 3.6 V. This device ensures a very low static and dynamic power consumption across the entire VCC range from 0.8 V to 3.6 V. This device is fully specified for partial power-down applications using IOFF. The IOFF circuitry disables the output, preventing the damaging backflow current through the device when it is powered down.    AAL Eindhoven MK
footprint SOT1115
part A pins: 1 A, 6 Y (oc)
part B pins: 3 A, 4 Y (oc)
part C pins: 2 GND (power), 5 VCC (power)

## 74AUP2G0604GS
designator U?, comment Low-power inverting buffer with open-drain and inverter The 74AUP2G0604 is a single inverting buffer with open-drain output and a single inverter. It features two input pins (nA), an output pin (2Y) and an open-drain output pin (1Y). Schmitt trigger action at all inputs makes the circuit tolerant of slower input rise and fall times across the entire VCC range from 0.8 V to 3.6 V. This device ensures a very low static and dynamic power consumption across the entire VCC range from 0.8 V to 3.6 V. This device is fully specified for partial power-down applications using IOFF. The IOFF circuitry disables the output, preventing the damaging backflow current through the device when it is powered down.    AAL Eindhoven MK
footprint SOT1202
part A pins: 1 A, 6 Y (oc)
part B pins: 3 A, 4 Y (oc)
part C pins: 2 GND (power), 5 VCC (power)

## 74AUP2G0604GW
designator U?, comment Low-power inverting buffer with open-drain and inverter The 74AUP2G0604 is a single inverting buffer with open-drain output and a single inverter. It features two input pins (nA), an output pin (2Y) and an open-drain output pin (1Y). Schmitt trigger action at all inputs makes the circuit tolerant of slower input rise and fall times across the entire VCC range from 0.8 V to 3.6 V. This device ensures a very low static and dynamic power consumption across the entire VCC range from 0.8 V to 3.6 V. This device is fully specified for partial power-down applications using IOFF. The IOFF circuitry disables the output, preventing the damaging backflow current through the device when it is powered down.    AAL Eindhoven MK
footprint SOT363
part A pins: 1 A, 6 Y (oc)
part B pins: 3 A, 4 Y (oc)
part C pins: 2 GND (power), 5 VCC (power)

## 74AUP2G3404GF
designator U?, comment Short Description    AAL Eindhoven MK
footprint SOT891
part A pins: 1 A, 6 Y (out)
part B pins: 3 A, 4 Y (out)
part C pins: 2 GND (power), 5 VCC (power)

## 74AUP2G3404GM
designator U?, comment Short Description    AAL Eindhoven MK
footprint SOT886
part A pins: 1 A, 6 Y (out)
part B pins: 3 A, 4 Y (out)
part C pins: 2 GND (power), 5 VCC (power)

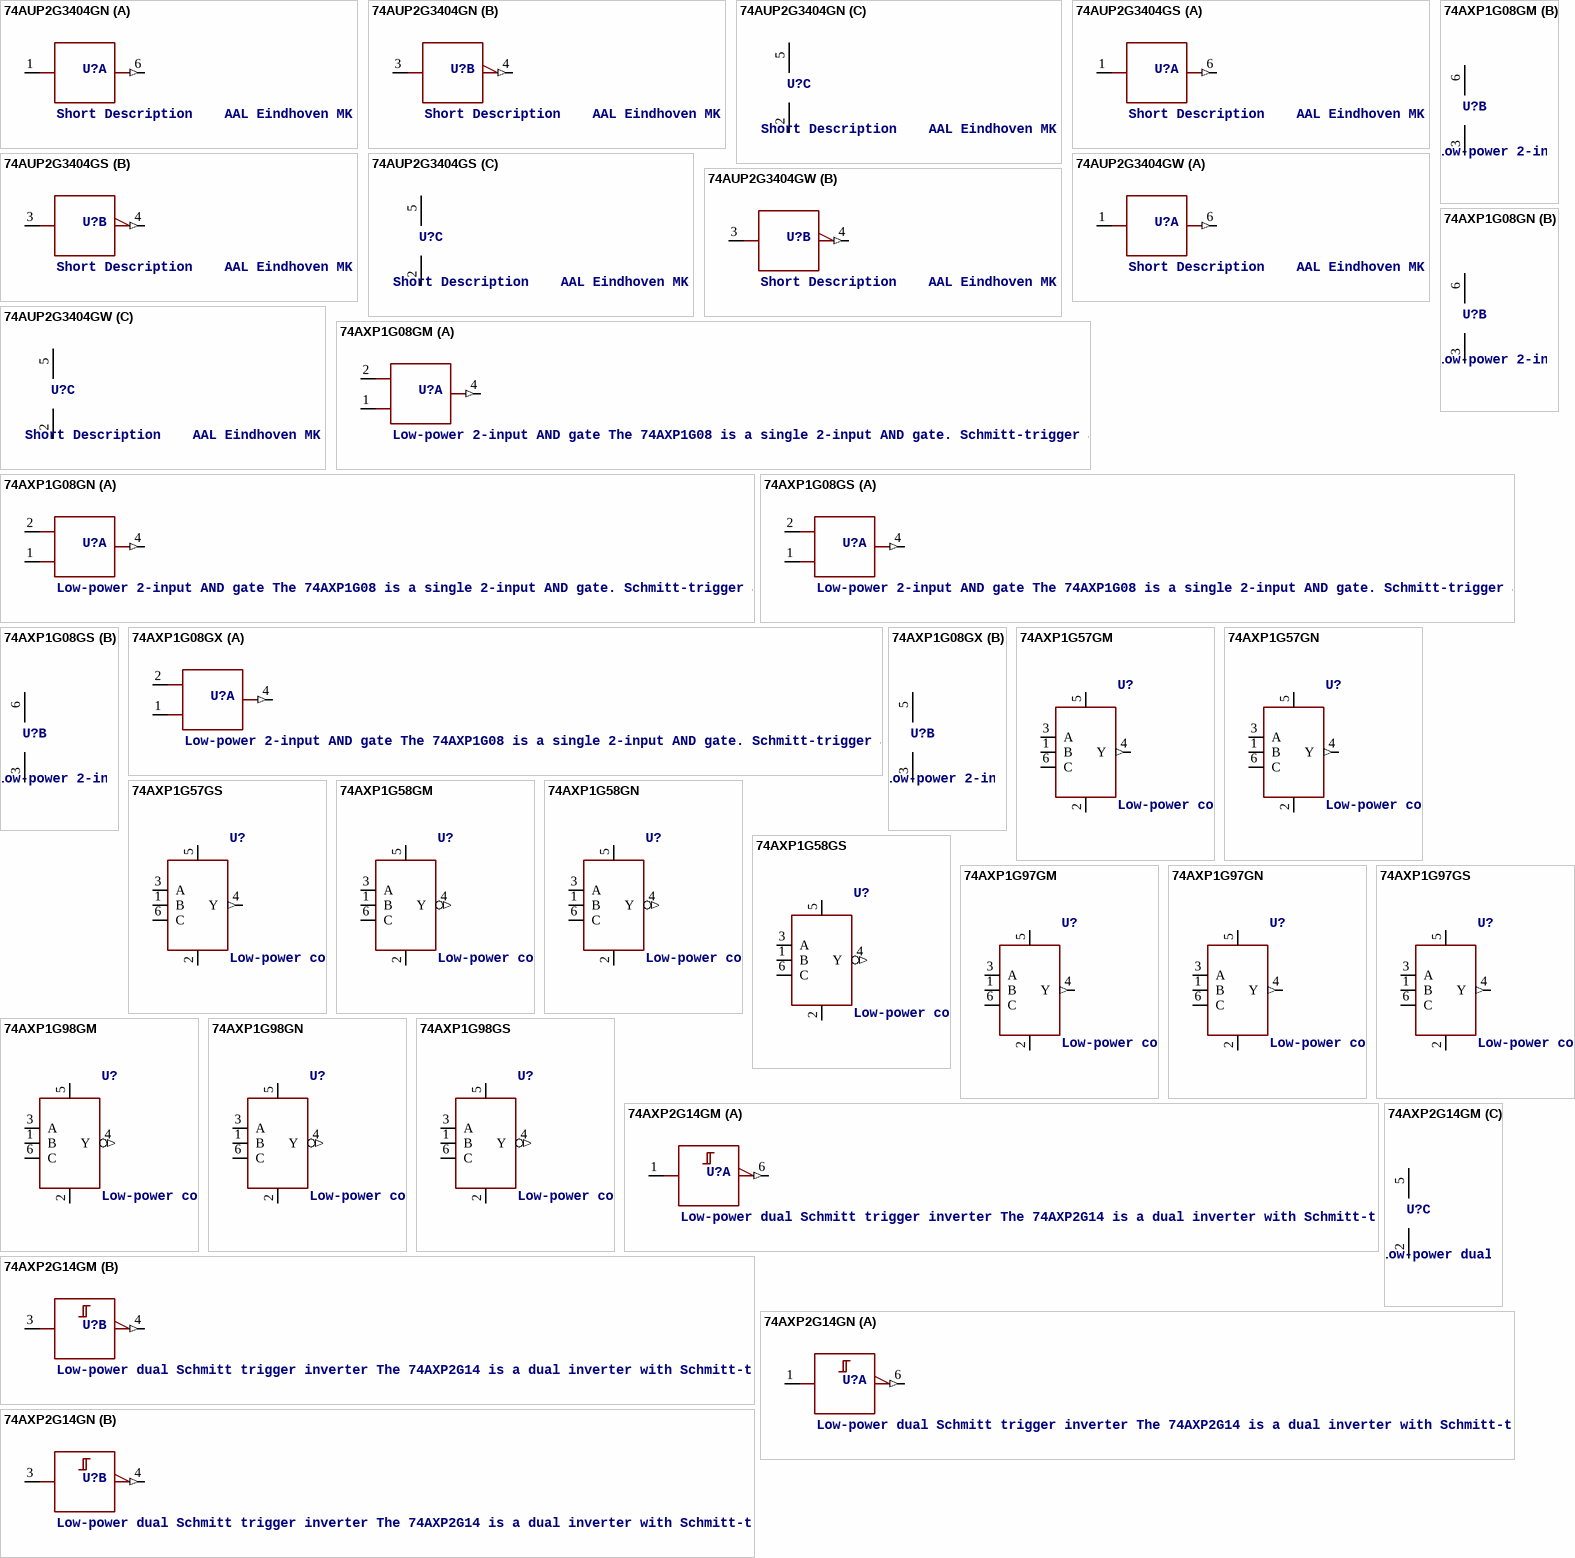
[diagram p14: symbols 74AUP2G3404GN to 74AXP2G14GN]

## 74AUP2G3404GN
designator U?, comment Short Description    AAL Eindhoven MK
footprint SOT1115
part A pins: 1 A, 6 Y (out)
part B pins: 3 A, 4 Y (out)
part C pins: 2 GND (power), 5 VCC (power)

## 74AUP2G3404GS
designator U?, comment Short Description    AAL Eindhoven MK
footprint SOT1202
part A pins: 1 A, 6 Y (out)
part B pins: 3 A, 4 Y (out)
part C pins: 2 GND (power), 5 VCC (power)

## 74AUP2G3404GW
designator U?, comment Short Description    AAL Eindhoven MK
footprint SOT363
part A pins: 1 A, 6 Y (out)
part B pins: 3 A, 4 Y (out)
part C pins: 2 GND (power), 5 VCC (power)

## 74AXP1G08GM
designator U?, comment Low-power 2-input AND gate The 74AXP1G08 is a single 2-input AND gate. Schmitt-trigger action at all inputs makes the circuit tolerant of slower input rise and fall times. This device ensures very low static and dynamic power consumption across the entire VCC range from 0.7 V to 2.75 V. It is fully specified for partial power down applications using IOFF. The IOFF circuitry disables the output, preventing the potentially damaging backflow current through the device when it is powered down.    AAL Eindhoven MK
footprint SOT886
part A pins: 1 B, 2 A, 4 Y (out)
part B pins: 3 GND (power), 6 VCC (power)

## 74AXP1G08GN
designator U?, comment Low-power 2-input AND gate The 74AXP1G08 is a single 2-input AND gate. Schmitt-trigger action at all inputs makes the circuit tolerant of slower input rise and fall times. This device ensures very low static and dynamic power consumption across the entire VCC range from 0.7 V to 2.75 V. It is fully specified for partial power down applications using IOFF. The IOFF circuitry disables the output, preventing the potentially damaging backflow current through the device when it is powered down.    AAL Eindhoven MK
footprint SOT1115
part A pins: 1 B, 2 A, 4 Y (out)
part B pins: 3 GND (power), 6 VCC (power)

## 74AXP1G08GS
designator U?, comment Low-power 2-input AND gate The 74AXP1G08 is a single 2-input AND gate. Schmitt-trigger action at all inputs makes the circuit tolerant of slower input rise and fall times. This device ensures very low static and dynamic power consumption across the entire VCC range from 0.7 V to 2.75 V. It is fully specified for partial power down applications using IOFF. The IOFF circuitry disables the output, preventing the potentially damaging backflow current through the device when it is powered down.    AAL Eindhoven MK
footprint SOT1202
part A pins: 1 B, 2 A, 4 Y (out)
part B pins: 3 GND (power), 6 VCC (power)

## 74AXP1G08GX
designator U?, comment Low-power 2-input AND gate The 74AXP1G08 is a single 2-input AND gate. Schmitt-trigger action at all inputs makes the circuit tolerant of slower input rise and fall times. This device ensures very low static and dynamic power consumption across the entire VCC range from 0.7 V to 2.75 V. It is fully specified for partial power down applications using IOFF. The IOFF circuitry disables the output, preventing the potentially damaging backflow current through the device when it is powered down.    AAL Eindhoven MK
footprint SOT1226
part A pins: 1 B, 2 A, 4 Y (out)
part B pins: 3 GND (power), 5 VCC (power)

## 74AXP1G57GM
designator U?, comment Low-power configurable gate with voltage-level translator The 74AXP1G57 is a configurable multiple function gate with Schmitt-trigger inputs. The device can be configured as any of the following logic functions AND, OR, NAND, NOR, XNOR, inverter and buffer. All inputs can be connected directly to VCC or GND. This device ensures very low static and dynamic power consumption across the entire VCC range from 0.7 V to 2.75 V. This device is fully specified for partial power down applications using IOFF. The IOFF circuitry disables the output, preventing the potentially damaging backflow current through the device when it is powered down.   AAL Eindhoven MK
footprint SOT886
pins: 1 B, 2 GND (power), 3 A, 4 Y (out), 5 VCC (power), 6 C

## 74AXP1G57GN
designator U?, comment Low-power configurable gate with voltage-level translator The 74AXP1G57 is a configurable multiple function gate with Schmitt-trigger inputs. The device can be configured as any of the following logic functions AND, OR, NAND, NOR, XNOR, inverter and buffer. All inputs can be connected directly to VCC or GND. This device ensures very low static and dynamic power consumption across the entire VCC range from 0.7 V to 2.75 V. This device is fully specified for partial power down applications using IOFF. The IOFF circuitry disables the output, preventing the potentially damaging backflow current through the device when it is powered down.   AAL Eindhoven MK
footprint SOT1115
pins: 1 B, 2 GND (power), 3 A, 4 Y (out), 5 VCC (power), 6 C